# Altium schematic symbol library Fuse-Library.SchLib: 2 symbols
Pins are listed as number, name and electrical type; pins without a type are passive.

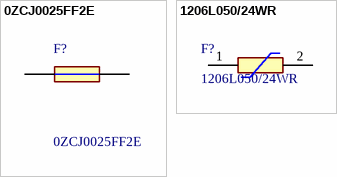
[diagram p0: symbols 0ZCJ0025FF2E to 1206L050/24WR]

## 0ZCJ0025FF2E
designator F?
BEL FUSE - CIRCUIT PROTECTION - 0ZCJ0025FF2E - FUSE, RESETTABLE PTC, 16VDC, 0.25A, SMD; Manufacturer_Name: Bel Circuit Protection; Geometry.Height: 0.75mm; Mouser Part Number: *; Mouser Price/Stock: *; Manufacturer_Part_Number: 0ZCJ0025FF2E; Datasheet Link: https://componentsearchengine.com/Datasheets/2/0ZCJ0025FF2E.pdf
footprint 0ZCJ0025FF2E
pins: 1, 2

## 1206L050/24WR
designator F?
1206L Series 24 V 500 mA 1206 SMT Polymeric PTC Resettable Fuse; Manufacturer: Littelfuse; Hold Current: 500mA; Max Current Rating: 100A; Maximum Resistance 1 Hour (R1max): 750mΩ; Minimum Resistance Initial (Rmin): 150mΩ; Power Dissipation: 600mW; Ratings: TUV; Value: 150mΩ; Trip Current: 1A; Working Voltage: 24V; Supplier: Farnell; Supplier Part Number: 1206L050/24WR; Manufacturer Part Number: 1206L050/24WR; RoHS: Compliant; Category: PTC Resettable Fuses; Stock: 540; Height: 1.25mm; Length: 3.4mm; Lifecycle Status: Production; Max Operating Temperature: 85°C; Min Operating Temperature: -40°C; Mounting Technology: Surface Mount; Number of Terminals: 2; REACH SVHC: Yes; Width: 1.8mm; ComponentLink1URL: https://datasheet.octopart.com:443/1206L050-24WR-Littelfuse-datasheet-181956355.pdf?src-supplier=IHS; ComponentLink1Description: https://datasheet.octopart.com:443/1206L050-24WR-Littelfuse-datasheet-181956355.pdf?src-supplier=IHS; ComponentLink2URL: https://datasheet.octopart.com:443/1206L050-24WR-Littelfuse-datasheet-165518606.pdf?src-supplier=Newark; ComponentLink2Description: https://datasheet.octopart.com:443/1206L050-24WR-Littelfuse-datasheet-165518606.pdf?src-supplier=Newark; ComponentLink3URL: https://datasheet.octopart.com:443/1206L050-24WR-Littelfuse-datasheet-130008768.pdf?src-supplier=ODG+(Origin+Data+Global); ComponentLink3Description: https://datasheet.octopart.com:443/1206L050-24WR-Littelfuse-datasheet-130008768.pdf?src-supplier=ODG+(Origin+Data+Global); ComponentLink4URL: https://datasheet.octopart.com:443/1206L050-24WR-Littelfuse-datasheet-183575726.pdf?src-supplier=Sager+Electronics; ComponentLink4Description: https://datasheet.octopart.com:443/1206L050-24WR-Littelfuse-datasheet-183575726.pdf?src-supplier=Sager+Electronics; ComponentLink5URL: https://datasheet.octopart.com:443/1206L050-24WR-Littelfuse-datasheet-176144932.pdf?src-supplier=Sager+Electronics; ComponentLink5Description: https://datasheet.octopart.com:443/1206L050-24WR-Littelfuse-datasheet-176144932.pdf?src-supplier=Sager+Electronics; ComponentLink6URL: https://datasheet.octopart.com:443/1206L050-24WR-Littelfuse-datasheet-178296428.pdf?src-supplier=Burklin+Elektronik; ComponentLink6Description: https://datasheet.octopart.com:443/1206L050-24WR-Littelfuse-datasheet-178296428.pdf?src-supplier=Burklin+Elektronik; ComponentLink7URL: https://datasheet.octopart.com:443/1206L050-24WR-Littelfuse-datasheet-170674161.pdf?src-supplier=Future+Electronics; ComponentLink7Description: https://datasheet.octopart.com:443/1206L050-24WR-Littelfuse-datasheet-170674161.pdf?src-supplier=Future+Electronics; ComponentLink8URL: https://datasheet.octopart.com:443/1206L050-24WR-Littelfuse-datasheet-26530142.pdf?src-supplier=Fuses+Unlimited; ComponentLink8Description: https://datasheet.octopart.com:443/1206L050-24WR-Littelfuse-datasheet-26530142.pdf?src-supplier=Fuses+Unlimited; Supplier 1: Farnell; Supplier Part Number 1: 1206L050/24WR
footprint 1206L075132WR
pins: 1, 2